# EAGLE library part TDA7266M (library Rebel)
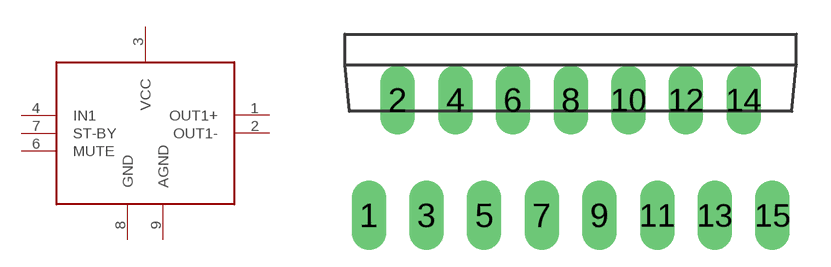
[diagram p34: symbol with the pads of MULTIWATT-15; footprint MULTIWATT-15]

Designator prefix IC

## TDA7266M  [MULTIWATT-15]
1  OUT1+
2  OUT1-
3  VCC
4  IN1
6  MUTE
7  ST-BY
8  GND
9  AGND

## Footprint MULTIWATT-15 (pad centres in mm)
drill 1.016 long: 1 -8.89,-5.08; 2 -7.62,0; 3 -6.35,-5.08; 4 -5.08,0; 5 -3.81,-5.08; 6 -2.54,0; 7 -1.27,-5.08; 8 0,0; 9 1.27,-5.08; 10 2.54,0; 11 3.81,-5.08; 12 5.08,0; 13 6.35,-5.08; 14 7.62,0; 15 8.89,-5.08